# Altium footprint library Pin Header 3.PcbLib: 1 footprints
Each footprint in its own frame and in the unit in brackets; x right, y up, seen from the top. Pads: shape width x height; smd on the part's side, far side on the other; paste and mask are expansions set on the pad; w line width, h text height; cw(c..) or ccw(c..) is an arc to the next point about the centre after c.
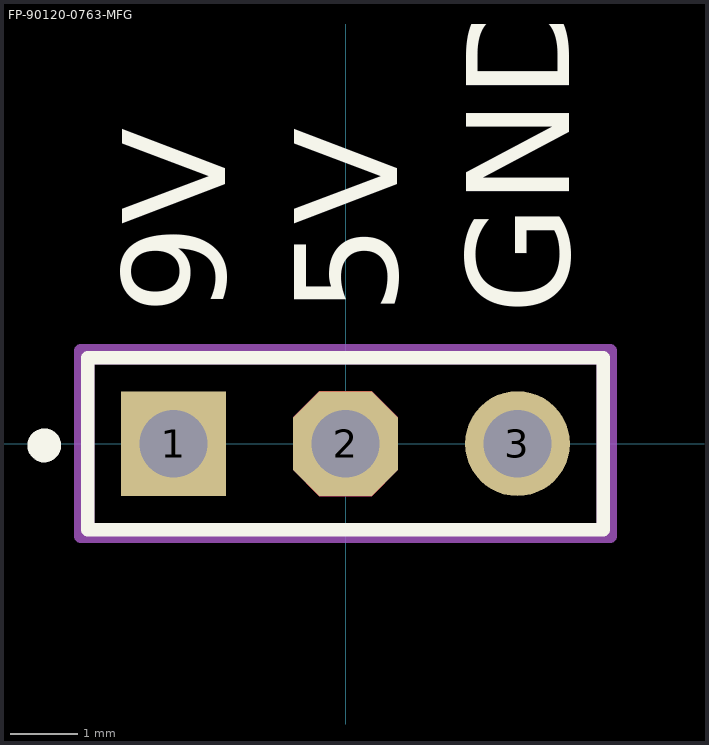
[diagram p0: the footprint, top view; thin cyan lines are the x and y axes]

## FP-90120-0763-MFG [mm]
pads (3):
  rect 1.55x1.55 hole 1 paste-2539.97 mask+0: 1(-2.54,0)
  oct 1.55x1.55 hole 1 paste-2539.97 mask+0: 2(0,0)
  round 1.55 hole 1 paste-2539.97 mask+0: 3(2.54,0)
Top Layer:
  region: -0.387,-0.775 -0.775,-0.387 -0.775,0.387 -0.387,0.775 0.387,0.775 0.775,0.387 0.775,-0.387 0.387,-0.775
Bottom Layer:
  region: -0.387,-0.775 -0.775,-0.387 -0.775,0.387 -0.387,0.775 0.387,0.775 0.775,0.387 0.775,-0.387 0.387,-0.775
Top Overlay:
  circle w0.25: c-4.45,-0.025 r0.125
  lines w0.2: -3.81,-1.27 -3.81,1.27 3.81,1.27 3.81,-1.27 -3.81,-1.27
  text "GND" at 3.302,1.906 h1.52
  text "5V" at 0.762,1.905 h1.52
  text "9V" at -1.778,1.905 h1.52
Top Assembly:
  lines w0.2: -3.91,-1.37 -3.91,1.37 3.91,1.37 3.91,-1.37 -3.91,-1.37
  text ".Designator" at 0,-0.001 h1
Top 3D Body:
  lines w0.2: -3.81,-1.27 -3.81,1.27 3.81,1.27 3.81,-1.27 -3.81,-1.27
Top Courtyard:
  lines w0.2: -3.91,-1.37 -3.91,1.37 3.91,1.37 3.91,-1.37 -3.91,-1.37
Top Component Center:
  lines w0.1: -0.5,0 0.5,0 ; 0,-0.5 0,0.5
3D body "Conn_Molex_90120-0763_eec.STEP": height 0.25, standoff 0, extent -3.91,-1.37 3.91,1.37